# Altium schematic symbol library LibSCH.SchLib: 43 symbols
Pins are listed as number, name and electrical type; pins without a type are passive.

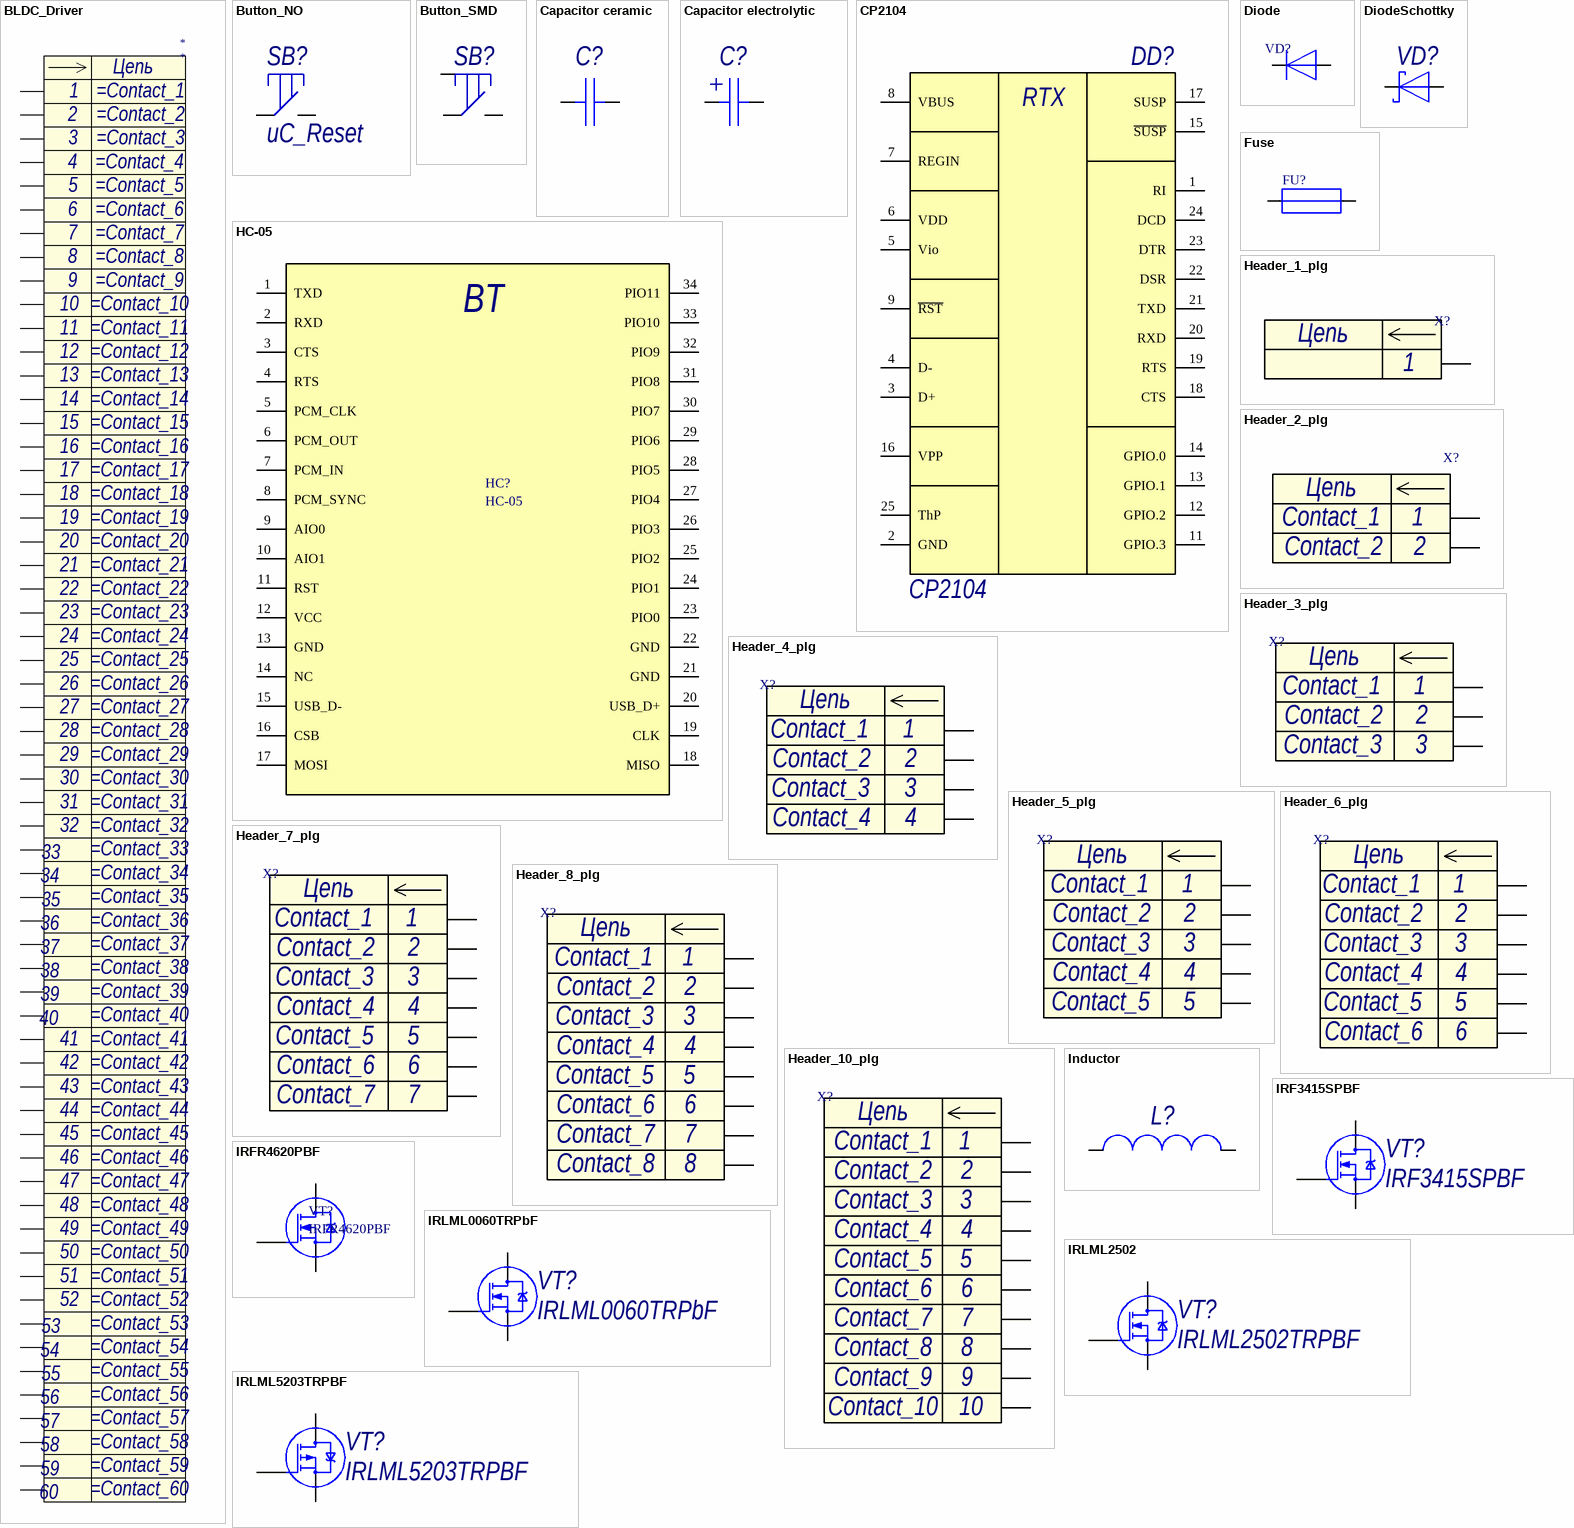
[diagram p0: symbols BLDC_Driver to IRLML5203TRPBF]

## BLDC_Driver
designator *
Разъем - 60 конт. розетка
pins: 1, 2, 3, 4, 5, 6, 7, 8, 9, 10, 11, 12, 13, 14, 15, 16, 17, 18, 19, 20, 21, 22, 23, 24, 25, 26, 27, 28, 29, 30, 31, 32, 33, 34, 35, 36, 37, 38, 39, 40, 41, 42, 43, 44, 45, 46, 47, 48, 49, 50, 51, 52, 53, 54, 55, 56, 57, 58, 59, 60
text: Цепь

## Button_NO
designator SB?  Function: uC_Reset
Кнопка без фиксации нормальноразомкнутая
footprint NOButton
pins: 1, 2

## Button_SMD
designator SB?
Кнопка без фиксации
footprint 1-1437565-6 (Button smd)
pins: 1, 2, 3 GND

## Capacitor ceramic
designator C?
Конденсатор кер.
footprint NPC0603 (Non polar chip capacitor, size 0603)
footprint NPC0805 (Non polar chip capacitor, size 0805)
pins: 1, 2

## Capacitor electrolytic
designator C?
Конденсатор пол.
footprint CAP_PIN_RAD_D10_A5 (Footprint not found)
footprint CAP_PIN_RAD_D16_A7.5 (D16_A7.5)
footprint CAP_PIN_RAD_D10_A5 RA (D10_A5_RA)
pins: 1, 2

## CP2104
designator DD?
Мост USB-UART; Manufacturer: Silicon Labs; Baud rate range: 300бит/с...2Мбит/с; Name: CP2104; Package: QFN-24
footprint QFN24
pins: 1 RI, 2 GND, 3 D+, 4 D-, 5 Vio, 6 VDD, 7 REGIN, 8 VBUS, 9 ~{RST}, 10 NC hidden, 11 GPIO.3, 12 GPIO.2, 13 GPIO.1, 14 GPIO.0, 15 ~{SUSP}, 16 VPP, 17 SUSP, 18 CTS, 19 RTS, 20 RXD, 21 TXD, 22 DSR, 23 DTR, 24 DCD, 25 ThP
text: RTX

## Diode
designator VD?  (value not drawn)
Диод; Imax: *; Name: *; Vr: *; Vf: *
footprint DO-214AA
pins: 1 K, 2 A

## DiodeSchottky
designator VD?
Диод Шоттки
footprint SOD123
pins: 1 K, 2 A

## Fuse
designator FU?
Предохранитель; Value: XXX
footprint MF1210
footprint MF0805
pins: 1, 2

## HC-05
designator HC?
Bluetooth 2.0 модуль
footprint HC-05 (Bluetooth 2.0 module)
pins: 1 TXD, 2 RXD, 3 CTS, 4 RTS, 5 PCM_CLK, 6 PCM_OUT, 7 PCM_IN, 8 PCM_SYNC, 9 AIO0, 10 AIO1, 11 RST, 12 VCC "3.3В", 13 GND, 14 NC, 15 USB_D-, 16 CSB, 17 MOSI, 18 MISO, 19 CLK, 20 USB_D+, 21 GND, 22 GND, 23 PIO0, 24 PIO1, 25 PIO2, 26 PIO3, 27 PIO4, 28 PIO5, 29 PIO6, 30 PIO7, 31 PIO8 "LED1", 32 PIO9 "LED2", 33 PIO10, 34 PIO11 "KEY"
text: BT

## Header_1_plg
designator ?, comment X?
Разъем - 1 конт. вилка
footprint Pad
pins: 1
text: Цепь

## Header_2_plg
designator X?
Разъем - 2 конт. вилка; Contact_1: Contact_1; Contact_2: Contact_2
footprint PLS-2
footprint CLICK-MATE 2
footprint CLICK-MATE 2 RA
pins: 1, 2
text: Цепь

## Header_3_plg
designator X?
Разъем - 3 конт. вилка; Contact_1: Contact_1; Contact_2: Contact_2; Contact_3: Contact_3
footprint CLICK-MATE 3 (5054050370)
footprint PLS-3
pins: 1, 2, 3
text: Цепь

## Header_4_plg
designator X?
Разъем - 4 конт. вилка; Contact_1: Contact_1; Contact_2: Contact_2; Contact_3: Contact_3; Contact_4: Contact_4
footprint CLICK-MATE 4 (5054050470)
footprint CLICK-MATE 4 RA
footprint PLS-4
pins: 1, 2, 3, 4
text: Цепь

## Header_5_plg
designator X?
Разъем - 5 конт. вилка; Contact_1: Contact_1; Contact_2: Contact_2; Contact_3: Contact_3; Contact_4: Contact_4; Contact_5: Contact_5
footprint CLICK-MATE 5
footprint PLS-5
pins: 1, 2, 3, 4, 5
text: Цепь

## Header_6_plg
designator X?
Разъем - 6 конт. вилка; Contact_1: Contact_1; Contact_2: Contact_2; Contact_3: Contact_3; Contact_4: Contact_4; Contact_5: Contact_5; Contact_6: Contact_6
footprint CLICK-MATE 6 (5054050670)
footprint CLICK-MATE 6 RA
footprint PLS-6
pins: 1, 2, 3, 4, 5, 6
text: Цепь

## Header_7_plg
designator X?
Разъем - 7 конт. вилка; Contact_1: Contact_1; Contact_2: Contact_2; Contact_3: Contact_3; Contact_4: Contact_4; Contact_5: Contact_5; Contact_6: Contact_6; Contact_7: Contact_7
footprint CLICK-MATE 7 (505405-0770)
footprint CLICK-MATE 7 RA
footprint PLS-7
pins: 1, 2, 3, 4, 5, 6, 7
text: Цепь

## Header_8_plg
designator X?
Разъем - 8 конт. вилка; Contact_1: Contact_1; Contact_2: Contact_2; Contact_3: Contact_3; Contact_4: Contact_4; Contact_5: Contact_5; Contact_6: Contact_6; Contact_7: Contact_7; Contact_8: Contact_8
footprint CLICK-MATE 8 (5054050870)
footprint CLICK-MATE 8 RA
footprint PLS-8
pins: 1, 2, 3, 4, 5, 6, 7, 8
text: Цепь

## Header_10_plg
designator X?
Разъем - 10 конт. вилка; Contact_1: Contact_1; Contact_2: Contact_2; Contact_3: Contact_3; Contact_4: Contact_4; Contact_5: Contact_5; Contact_6: Contact_6; Contact_7: Contact_7; Contact_8: Contact_8; Contact_9: Contact_9; Contact_10: Contact_10
footprint CLICK-MATE 10 (505405-1070)
footprint CLICK-MATE 10 RA (5025851070)
footprint PLS-10 (PLS-40 10 pin header)
pins: 1, 2, 3, 4, 5, 6, 7, 8, 9, 10
text: Цепь

## Inductor
designator L?
Катушка индуктивности
footprint IND: B82477G
footprint IND: B82472G
pins: 1, 2

## IRF3415SPBF
designator VT?
N-канальный транзистор; Manufacturer: International Rectifier; Max. voltage gate-to-source: ±20В; Max. voltage drain-to-source: 150В; Max. drain current (continuous); 25C: 43А; Resistance of open channel; 10В: 42мОм; Max. power dissipation; 25C: 200Вт; Total gate charge: 2,5нКл; Name: IRF3415SPBF; Package: D2PAK
footprint D2PAK
pins: D, G, S

## IRFR4620PBF
designator VT?
N-канальный транзистор; Manufacturer: International Rectifier; Max. drain current (continuous); 25C: 24 A; Max. power dissipation; 25C: 144 w; Max. voltage drain-to-source: 150 V; Max. voltage gate-to-source: ±20 V; Resistance of open channel; 10В: 72 mohm; Total gate charge: 25 nC; Name: IRFR4620PBF; Package: DPAK
footprint DPAK (D-Pak, Body 6,2x6,7mm)
pins: D, G, S

## IRLML0060TRPbF
designator VT?
N-канальный МДП-транзистор; Manufacturer: International Rectifier; Max. voltage gate-to-source: +-16В; Max. voltage drain-to-source: 60В; Max. drain current (continuous); 25C: 2,7А; Resistance of open channel; 10В: 92мОм; Max. power dissipation; 25C: 1,25Вт; Total gate charge: 2,5нКл; Name: IRLML0060TRPbF; Package: SOT23-3
footprint SOT23-3
pins: D, G, S

## IRLML2502
designator VT?, comment IRLML2502TRPBF
N-канальный МДП-транзистор; Manufacturer: Infineon; Max. voltage gate-to-source: +-12В; Max. voltage drain-to-source: 20В; Max. drain current (continuous); 25C: 4,2А; Resistance of open channel; 10В: 45мОм; Max. power dissipation; 25C: 1,25Вт; Total gate charge: 2,5нКл; Name: IRLML2502TRPBF; Package: SOT23-3
footprint SOT23-3
pins: D, G, S

## IRLML5203TRPBF
designator VT?
P-канальный МДП-транзистор; Manufacturer: International Rectifier; Max. voltage gate-to-source: +-16В; Max. voltage drain-to-source: -30В; Max. drain current (continuous); 25C: -3А; Resistance of open channel; 10В: 98мОм; Max. power dissipation; 25C: 1,25Вт; Total gate charge: 2,5нКл; Name: IRLML5203TRPBF; Package: SOT23-3
footprint SOT23-3
pins: D, G, S

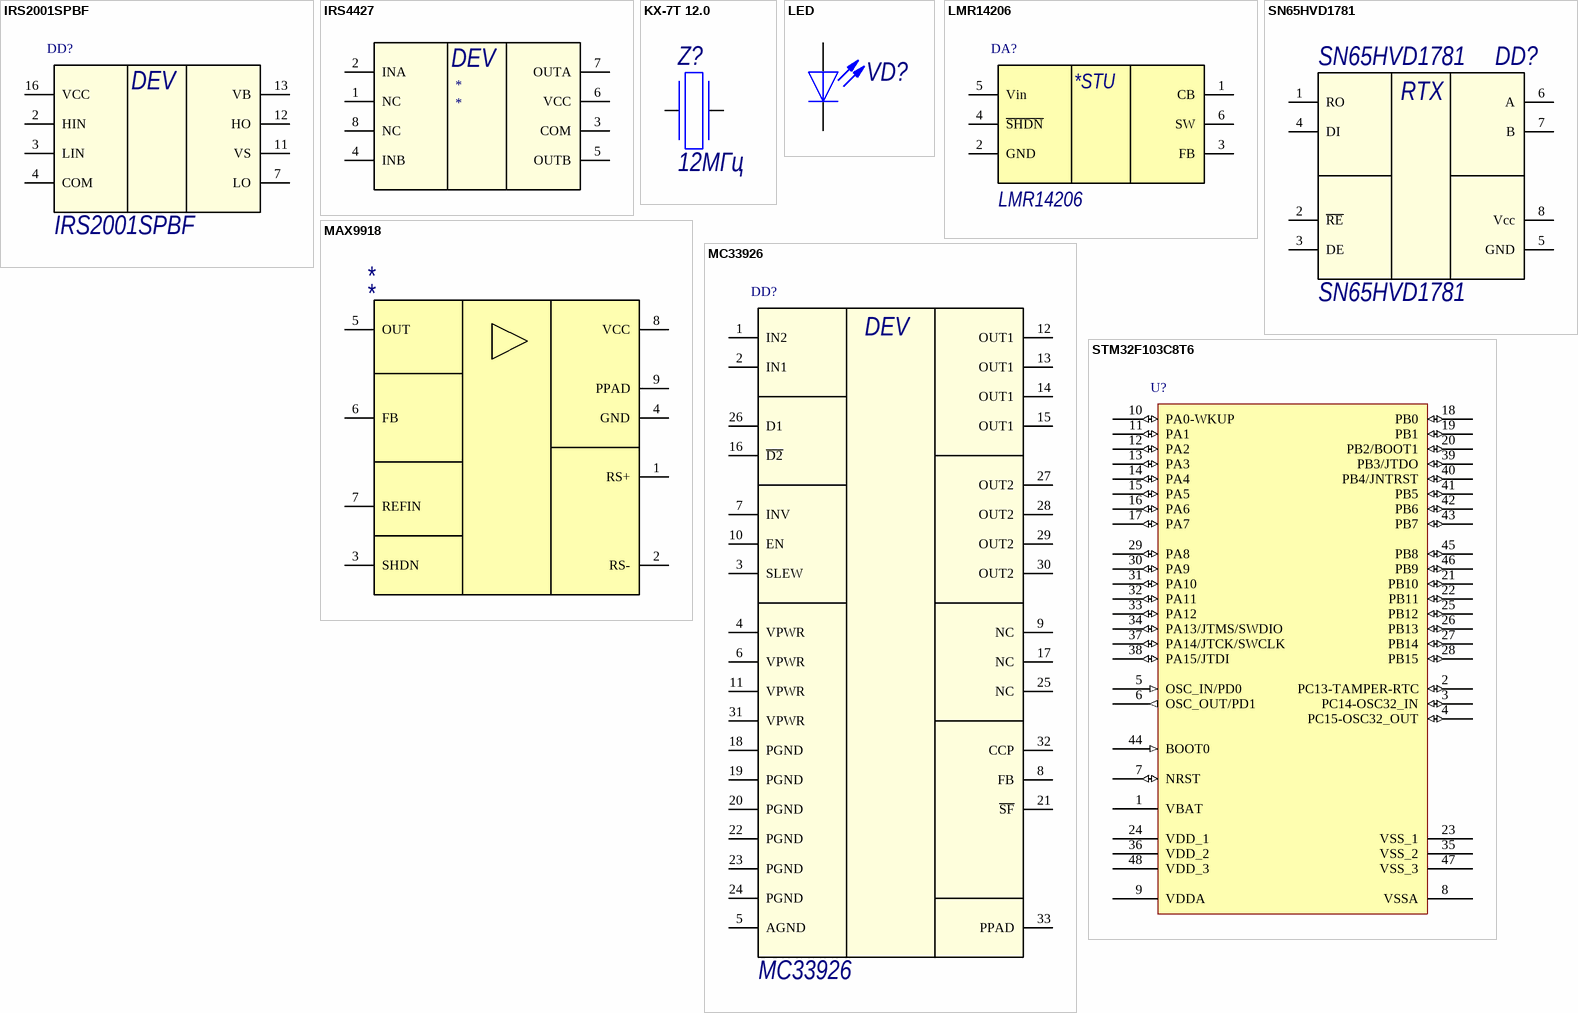
[diagram p1: symbols IRS2001SPBF to STM32F103C8T6]

## IRS2001SPBF
designator DD?
Драйвер верхнего-нижнего плеча; Name: IRS2001SPBF
footprint SO8
pins: 2 HIN, 3 LIN, 4 COM, 7 LO, 11 VS, 12 HO, 13 VB, 16 VCC
text: DEV

## IRS4427
designator *
Драйвер нижнего плеча
footprint SO8
pins: 1 NC, 2 INA, 3 COM, 4 INB, 5 OUTB, 6 VCC, 7 OUTA, 8 NC
text: DEV

## KX-7T 12.0
designator Z?, comment 12МГц
Кварцевый резонатор; Manufacturer: Geyer Electronics; Name: KX-7T 12.0; Tolerance: 30ppm; Temperature tolerance: 100ppm; Load capacity: 12пФ; Max. aging frequency at first year: +-2ppm; Temperature range: -40...85C; Value: 12МГц; Package: SMD3,2x2,5x0,8
footprint QUARTZ
pins: 1, 2

## LED
designator VD?
Светодиод SMD; Manufacturer: KGB; Forward voltage; 25мА: 2,15В; Max. forward current (continuous): 25мА; Package: 0603
footprint 0603_LED_BLUE
footprint 0603_LED _GREEN
footprint 0603_LED _RED
footprint 1206_LED_BLUE
footprint 1206_LED_GREEN
footprint 1206_LED_RED
pins: 1 K, 2 A

## LMR14206
designator DA?
DC\DC; Name: LMR14206
footprint SOT23-6
pins: 1 CB, 2 GND, 3 FB, 4 ~{SHDN}, 5 Vin, 6 SW
text: *STU

## MAX9918
designator *
Name: MAX9918
footprint SO8 PWR_PAD
pins: 1 RS+, 2 RS-, 3 SHDN, 4 GND, 5 OUT, 6 FB, 7 REFIN, 8 VCC, 9 PPAD

## MC33926
designator DD?
Н-мост 5А; Name: MC33926
footprint PQFN32
pins: 1 IN2, 2 IN1, 3 SLEW, 4 VPWR, 5 AGND, 6 VPWR, 7 INV, 8 FB, 9 NC, 10 EN, 11 VPWR, 12 OUT1, 13 OUT1, 14 OUT1, 15 OUT1, 16 ~{D2}, 17 NC, 18 PGND, 19 PGND, 20 PGND, 21 ~{SF}, 22 PGND, 23 PGND, 24 PGND, 25 NC, 26 D1, 27 OUT2, 28 OUT2, 29 OUT2, 30 OUT2, 31 VPWR, 32 CCP, 33 PPAD
text: DEV

## SN65HVD1781
designator DD?
Преобразователь RS-485 - UART; Name: SN65HVD1781
footprint SO8
pins: 1 RO, 2 ~{RE}, 3 DE, 4 DI, 5 GND, 6 A, 7 B, 8 Vcc
text: RTX

## STM32F103C8T6
designator U?
STM32 ARM-based 32-bit MCU with 64 Kbytes Flash, 48-pin LQFP, Industrial Temperature; Published: 30-May-2008; DatasheetVersion: rev6, Mar-2008; PackageVersion: Mar-2008; PackageReference: LQFP48; Publisher: Altium Limited; PackageDescription: 48-Pin Low-Profile Quad Flat Pack, 7 x 7 mm Body, 0.5 mm Pitch (LQFP48); ComponentLink1Description: Manufacturer Link; ComponentLink1URL: www.st.com/stm32; ComponentLink2Description: Datasheet; ComponentLink2URL: http://www.st.com/stonline/products/literature/ds/13587.pdf
footprint LQFP48
pins: 1 VBAT (power), 2 PC13-TAMPER-RTC (io), 3 PC14-OSC32_IN (io), 4 PC15-OSC32_OUT (io), 5 OSC_IN/PD0 (in), 6 OSC_OUT/PD1 (out), 7 NRST (io), 8 VSSA (power), 9 VDDA (power), 10 PA0-WKUP (io), 11 PA1 (io), 12 PA2 (io), 13 PA3 (io), 14 PA4 (io), 15 PA5 (io), 16 PA6 (io), 17 PA7 (io), 18 PB0 (io), 19 PB1 (io), 20 PB2/BOOT1 (io), 21 PB10 (io), 22 PB11 (io), 23 VSS_1 (power), 24 VDD_1 (power), 25 PB12 (io), 26 PB13 (io), 27 PB14 (io), 28 PB15 (io), 29 PA8 (io), 30 PA9 (io), 31 PA10 (io), 32 PA11 (io), 33 PA12 (io), 34 PA13/JTMS/SWDIO (io), 35 VSS_2 (power), 36 VDD_2 (power), 37 PA14/JTCK/SWCLK (io), 38 PA15/JTDI (io), 39 PB3/JTDO (io), 40 PB4/JNTRST (io), 41 PB5 (io), 42 PB6 (io), 43 PB7 (io), 44 BOOT0 (in), 45 PB8 (io), 46 PB9 (io), 47 VSS_3 (power), 48 VDD_3 (power)

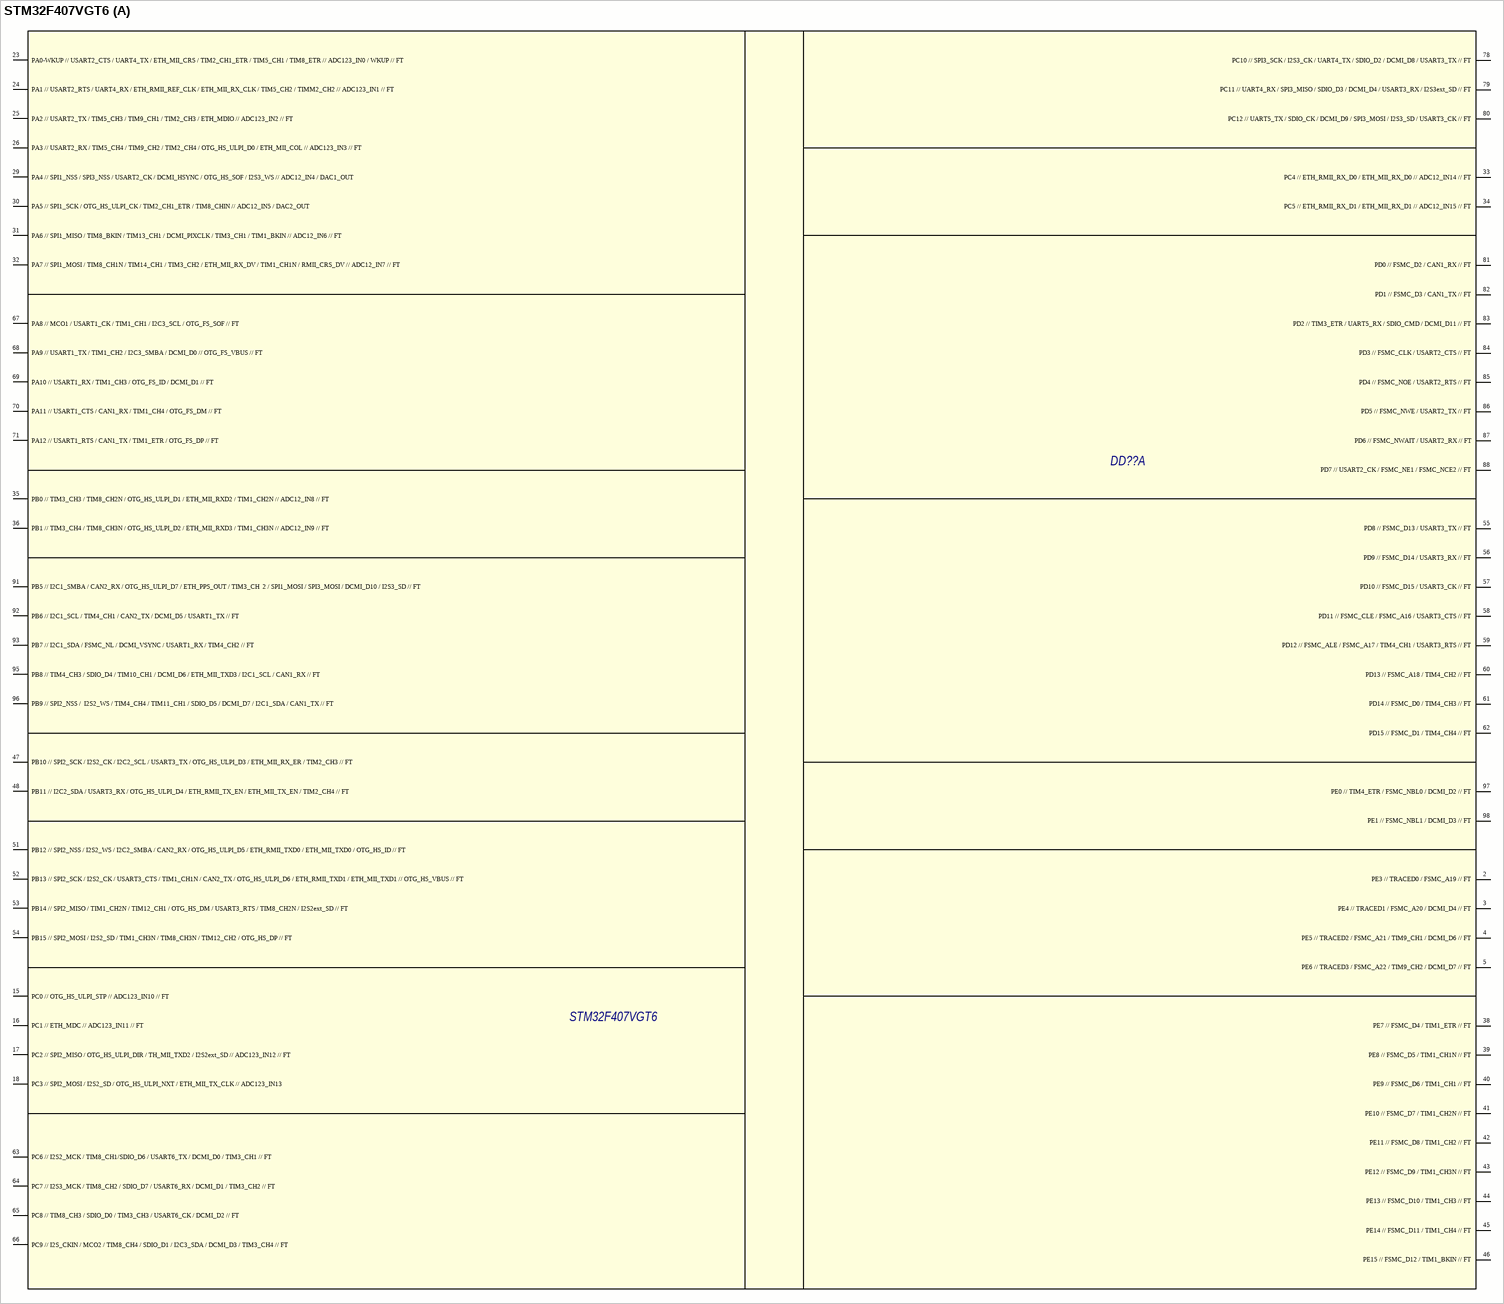
[diagram p2: symbol STM32F407VGT6]

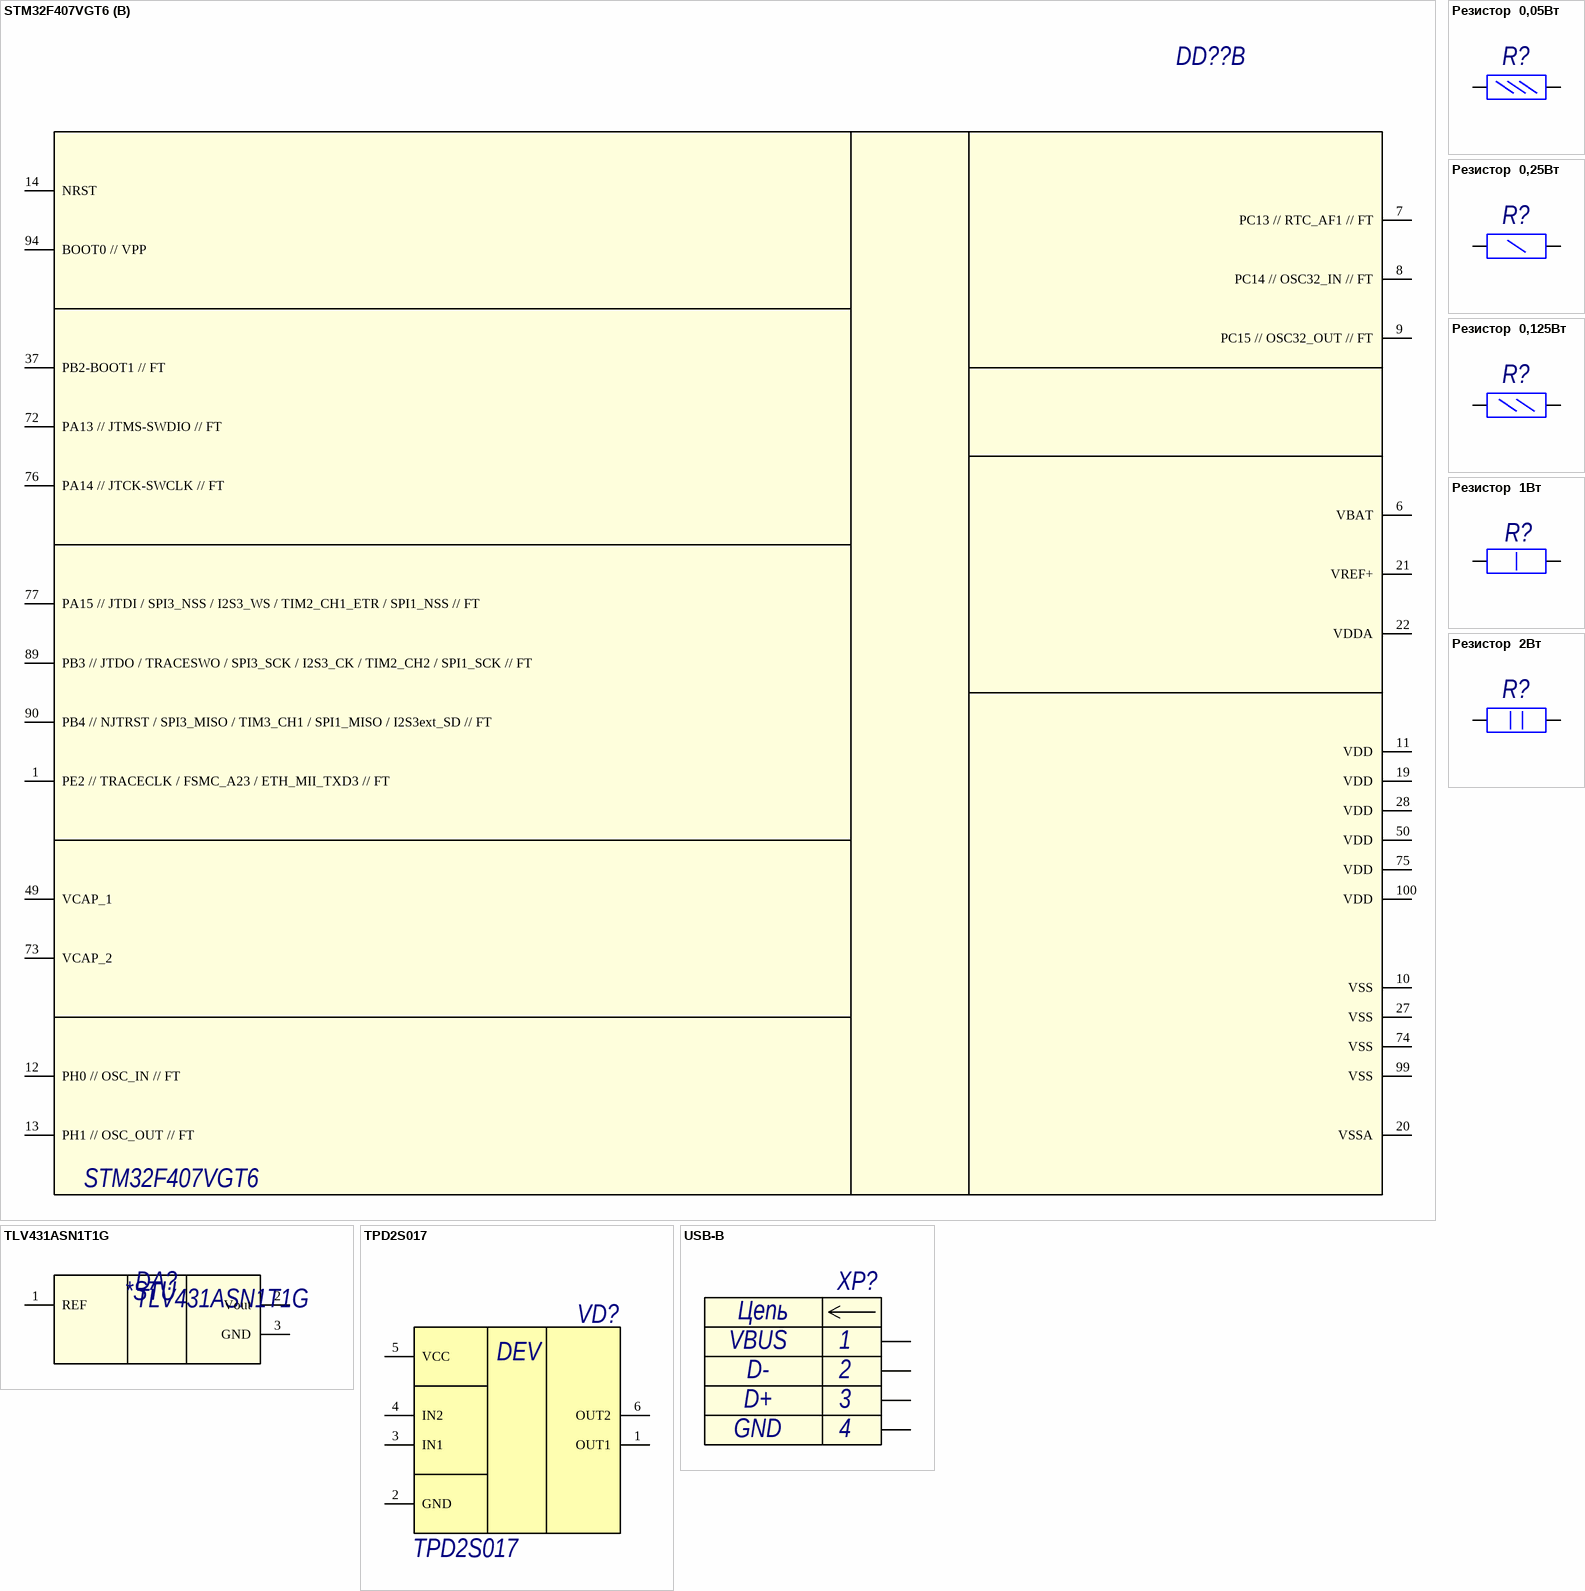
[diagram p3: symbols STM32F407VGT6 to Резистор  2Вт]

## STM32F407VGT6
designator DD??
Name: STM32F407VGT6
footprint LQFP100 (Microcontroller)
part A pins: 2 PE3 // TRACED0 / FSMC_A19 // FT, 3 PE4 // TRACED1 / FSMC_A20 / DCMI_D4 // FT, 4 PE5 // TRACED2 / FSMC_A21 / TIM9_CH1 / DCMI_D6 // FT, 5 PE6 // TRACED3 / FSMC_A22 / TIM9_CH2 / DCMI_D7 // FT, 15 PC0 // OTG_HS_ULPI_STP // ADC123_IN10 // FT, 16 PC1 // ETH_MDC // ADC123_IN11 // FT, 17 PC2 // SPI2_MISO / OTG_HS_ULPI_DIR / TH_MII_TXD2 / I2S2ext_SD // ADC123_IN12 // FT, 18 PC3 // SPI2_MOSI / I2S2_SD / OTG_HS_ULPI_NXT / ETH_MII_TX_CLK // ADC123_IN13, 23 PA0-WKUP // USART2_CTS / UART4_TX / ETH_MII_CRS / TIM2_CH1_ETR / TIM5_CH1 / TIM8_ETR // ADC123_IN0 / WKUP // FT , 24 PA1 // USART2_RTS / UART4_RX / ETH_RMII_REF_CLK / ETH_MII_RX_CLK / TIM5_CH2 / TIMM2_CH2 // ADC123_IN1 // FT, 25 PA2 // USART2_TX / TIM5_CH3 / TIM9_CH1 / TIM2_CH3 / ETH_MDIO // ADC123_IN2 // FT, 26 PA3 // USART2_RX / TIM5_CH4 / TIM9_CH2 / TIM2_CH4 / OTG_HS_ULPI_D0 / ETH_MII_COL // ADC123_IN3 // FT, 29 PA4 // SPI1_NSS / SPI3_NSS / USART2_CK / DCMI_HSYNC / OTG_HS_SOF / I2S3_WS // ADC12_IN4 / DAC1_OUT , 30 PA5 // SPI1_SCK / OTG_HS_ULPI_CK / TIM2_CH1_ETR / TIM8_CHIN // ADC12_IN5 / DAC2_OUT, 31 PA6 // SPI1_MISO / TIM8_BKIN / TIM13_CH1 / DCMI_PIXCLK / TIM3_CH1 / TIM1_BKIN // ADC12_IN6 // FT, 32 PA7 // SPI1_MOSI / TIM8_CH1N / TIM14_CH1 / TIM3_CH2 / ETH_MII_RX_DV / TIM1_CH1N / RMII_CRS_DV // ADC12_IN7 // FT, 33 PC4 // ETH_RMII_RX_D0 / ETH_MII_RX_D0 // ADC12_IN14 // FT, 34 PC5 // ETH_RMII_RX_D1 / ETH_MII_RX_D1 // ADC12_IN15 // FT, 35 PB0 // TIM3_CH3 / TIM8_CH2N / OTG_HS_ULPI_D1 / ETH_MII_RXD2 / TIM1_CH2N // ADC12_IN8 // FT, 36 PB1 // TIM3_CH4 / TIM8_CH3N / OTG_HS_ULPI_D2 / ETH_MII_RXD3 / TIM1_CH3N // ADC12_IN9 // FT, 38 PE7 // FSMC_D4 / TIM1_ETR // FT, 39 PE8 // FSMC_D5 / TIM1_CH1N // FT, 40 PE9 // FSMC_D6 / TIM1_CH1 // FT, 41 PE10 // FSMC_D7 / TIM1_CH2N // FT, 42 PE11 // FSMC_D8 / TIM1_CH2 // FT, 43 PE12 // FSMC_D9 / TIM1_CH3N // FT, 44 PE13 // FSMC_D10 / TIM1_CH3 // FT, 45 PE14 // FSMC_D11 / TIM1_CH4 // FT, 46 PE15 // FSMC_D12 / TIM1_BKIN // FT, 47 PB10 // SPI2_SCK / I2S2_CK / I2C2_SCL / USART3_TX / OTG_HS_ULPI_D3 / ETH_MII_RX_ER / TIM2_CH3 // FT, 48 PB11 // I2C2_SDA / USART3_RX / OTG_HS_ULPI_D4 / ETH_RMII_TX_EN / ETH_MII_TX_EN / TIM2_CH4 // FT, 51 PB12 // SPI2_NSS / I2S2_WS / I2C2_SMBA / CAN2_RX / OTG_HS_ULPI_D5 / ETH_RMII_TXD0 / ETH_MII_TXD0 / OTG_HS_ID // FT, 52 PB13 // SPI2_SCK / I2S2_CK / USART3_CTS / TIM1_CH1N / CAN2_TX / OTG_HS_ULPI_D6 / ETH_RMII_TXD1 / ETH_MII_TXD1 // OTG_HS_VBUS // FT, 53 PB14 // SPI2_MISO / TIM1_CH2N / TIM12_CH1 / OTG_HS_DM / USART3_RTS / TIM8_CH2N / I2S2ext_SD // FT, 54 PB15 // SPI2_MOSI / I2S2_SD / TIM1_CH3N / TIM8_CH3N / TIM12_CH2 / OTG_HS_DP // FT, 55 PD8 // FSMC_D13 / USART3_TX // FT, 56 PD9 // FSMC_D14 / USART3_RX // FT, 57 PD10 // FSMC_D15 / USART3_CK // FT, 58 PD11 // FSMC_CLE / FSMC_A16 / USART3_CTS // FT, 59 PD12 // FSMC_ALE / FSMC_A17 / TIM4_CH1 / USART3_RTS // FT, 60 PD13 // FSMC_A18 / TIM4_CH2 // FT, 61 PD14 // FSMC_D0 / TIM4_CH3 // FT, 62 PD15 // FSMC_D1 / TIM4_CH4 // FT, 63 PC6 // I2S2_MCK / TIM8_CH1/SDIO_D6 / USART6_TX / DCMI_D0 / TIM3_CH1 // FT, 64 PC7 // I2S3_MCK / TIM8_CH2 / SDIO_D7 / USART6_RX / DCMI_D1 / TIM3_CH2 // FT, 65 PC8 // TIM8_CH3 / SDIO_D0 / TIM3_CH3 / USART6_CK / DCMI_D2 // FT, 66 PC9 // I2S_CKIN / MCO2 / TIM8_CH4 / SDIO_D1 / I2C3_SDA / DCMI_D3 / TIM3_CH4 // FT, 67 PA8 // MCO1 / USART1_CK / TIM1_CH1 / I2C3_SCL / OTG_FS_SOF // FT, 68 PA9 // USART1_TX / TIM1_CH2 / I2C3_SMBA / DCMI_D0 // OTG_FS_VBUS // FT , 69 PA10 // USART1_RX / TIM1_CH3 / OTG_FS_ID / DCMI_D1 // FT, 70 PA11 // USART1_CTS / CAN1_RX / TIM1_CH4 / OTG_FS_DM // FT, 71 PA12 // USART1_RTS / CAN1_TX / TIM1_ETR / OTG_FS_DP // FT, 78 PC10 // SPI3_SCK / I2S3_CK / UART4_TX / SDIO_D2 / DCMI_D8 / USART3_TX // FT, 79 PC11 // UART4_RX / SPI3_MISO / SDIO_D3 / DCMI_D4 / USART3_RX / I2S3ext_SD // FT, 80 PC12 // UART5_TX / SDIO_CK / DCMI_D9 / SPI3_MOSI / I2S3_SD / USART3_CK // FT, 81 PD0 // FSMC_D2 / CAN1_RX // FT, 82 PD1 // FSMC_D3 / CAN1_TX // FT, 83 PD2 // TIM3_ETR / UART5_RX / SDIO_CMD / DCMI_D11 // FT, 84 PD3 // FSMC_CLK / USART2_CTS // FT, 85 PD4 // FSMC_NOE / USART2_RTS // FT, 86 PD5 // FSMC_NWE / USART2_TX // FT, 87 PD6 // FSMC_NWAIT / USART2_RX // FT, 88 PD7 // USART2_CK / FSMC_NE1 / FSMC_NCE2 // FT, 91 PB5 // I2C1_SMBA / CAN2_RX / OTG_HS_ULPI_D7 / ETH_PPS_OUT / TIM3_CH  2 / SPI1_MOSI / SPI3_MOSI / DCMI_D10 / I2S3_SD // FT, 92 PB6 // I2C1_SCL / TIM4_CH1 / CAN2_TX / DCMI_D5 / USART1_TX // FT, 93 PB7 // I2C1_SDA / FSMC_NL / DCMI_VSYNC / USART1_RX / TIM4_CH2 // FT, 95 PB8 // TIM4_CH3 / SDIO_D4 / TIM10_CH1 / DCMI_D6 / ETH_MII_TXD3 / I2C1_SCL / CAN1_RX // FT, 96 PB9 // SPI2_NSS /  I2S2_WS / TIM4_CH4 / TIM11_CH1 / SDIO_D5 / DCMI_D7 / I2C1_SDA / CAN1_TX // FT, 97 PE0 // TIM4_ETR / FSMC_NBL0 / DCMI_D2 // FT, 98 PE1 // FSMC_NBL1 / DCMI_D3 // FT
part B pins: 1 PE2 // TRACECLK / FSMC_A23 / ETH_MII_TXD3 // FT, 6 VBAT, 7 PC13 // RTC_AF1 // FT, 8 PC14 // OSC32_IN // FT, 9 PC15 // OSC32_OUT // FT, 10 VSS, 11 VDD, 12 PH0 // OSC_IN // FT, 13 PH1 // OSC_OUT // FT, 14 NRST, 19 VDD, 20 VSSA, 21 VREF+, 22 VDDA, 27 VSS, 28 VDD, 37 PB2-BOOT1 // FT, 49 VCAP_1, 50 VDD, 72 PA13 // JTMS-SWDIO // FT, 73 VCAP_2, 74 VSS, 75 VDD, 76 PA14 // JTCK-SWCLK // FT, 77 PA15 // JTDI / SPI3_NSS / I2S3_WS / TIM2_CH1_ETR / SPI1_NSS // FT, 89 PB3 // JTDO / TRACESWO / SPI3_SCK / I2S3_CK / TIM2_CH2 / SPI1_SCK // FT, 90 PB4 // NJTRST / SPI3_MISO / TIM3_CH1 / SPI1_MISO / I2S3ext_SD // FT, 94 BOOT0 // VPP, 99 VSS, 100 VDD

## TLV431ASN1T1G
designator DA?
ИОН; name: TLV431ASN1T1G
footprint sot23-3
pins: 1 REF, 2 Vout, 3 GND
text: *STU

## TPD2S017
designator VD?
Сборка защиты от ЭСР 2-хканальная; Manufacturer: Texas Instruments; Package: SOT23-6; Name: TPD2S017
footprint SOT23-6
pins: 1 OUT1, 2 GND, 3 IN1, 4 IN2, 5 VCC, 6 OUT2
text: DEV

## USB-B
designator XP?, comment USBB-J1  (value not drawn)
Разъём 4-х выводной вилка USB-B; Manufacturer: Confly electronics; Contact_1: VBUS; Contact_2: D-; Contact_3: D+; Contact_4: GND; Name: USBB-J1
footprint USB-B
pins: 1, 2, 3, 4
text: Цепь

## Резистор  0,05Вт
designator R?
Резистор 0,05Вт; Power rating: 0,05Вт
footprint R1206
footprint R0805
footprint R0402
footprint R0603
pins: 1, 2

## Резистор  0,25Вт
designator R?
Резистор 0,25Вт; Power rating: 0,25Вт
footprint R1206
footprint R0603
footprint R0805
footprint R0402
pins: 1, 2

## Резистор  0,125Вт
designator R?
Резистор  0,125Вт; Power rating: 0,125Вт
footprint R0805
footprint R0603
footprint R0402
footprint R1206
pins: 1, 2

## Резистор  1Вт
designator R?
Резистор  1Вт; Power rating: 1Вт
footprint R1206
footprint R0402
footprint R0603
footprint R0805
pins: 1, 2

## Резистор  2Вт
designator R?
Резистор  2Вт; Power rating: 2Вт
footprint R1206
footprint R0402
footprint R0603
footprint R0805
footprint R2512
pins: 1, 2